# Altium footprint library 我的PCB.PcbLib: 347 footprints (part 2 of 22)
Each footprint in its own frame and in the unit in brackets; x right, y up, seen from the top. Pads: shape width x height; smd on the part's side, far side on the other; paste and mask are expansions set on the pad; w line width, h text height; cw(c..) or ccw(c..) is an arc to the next point about the centre after c.
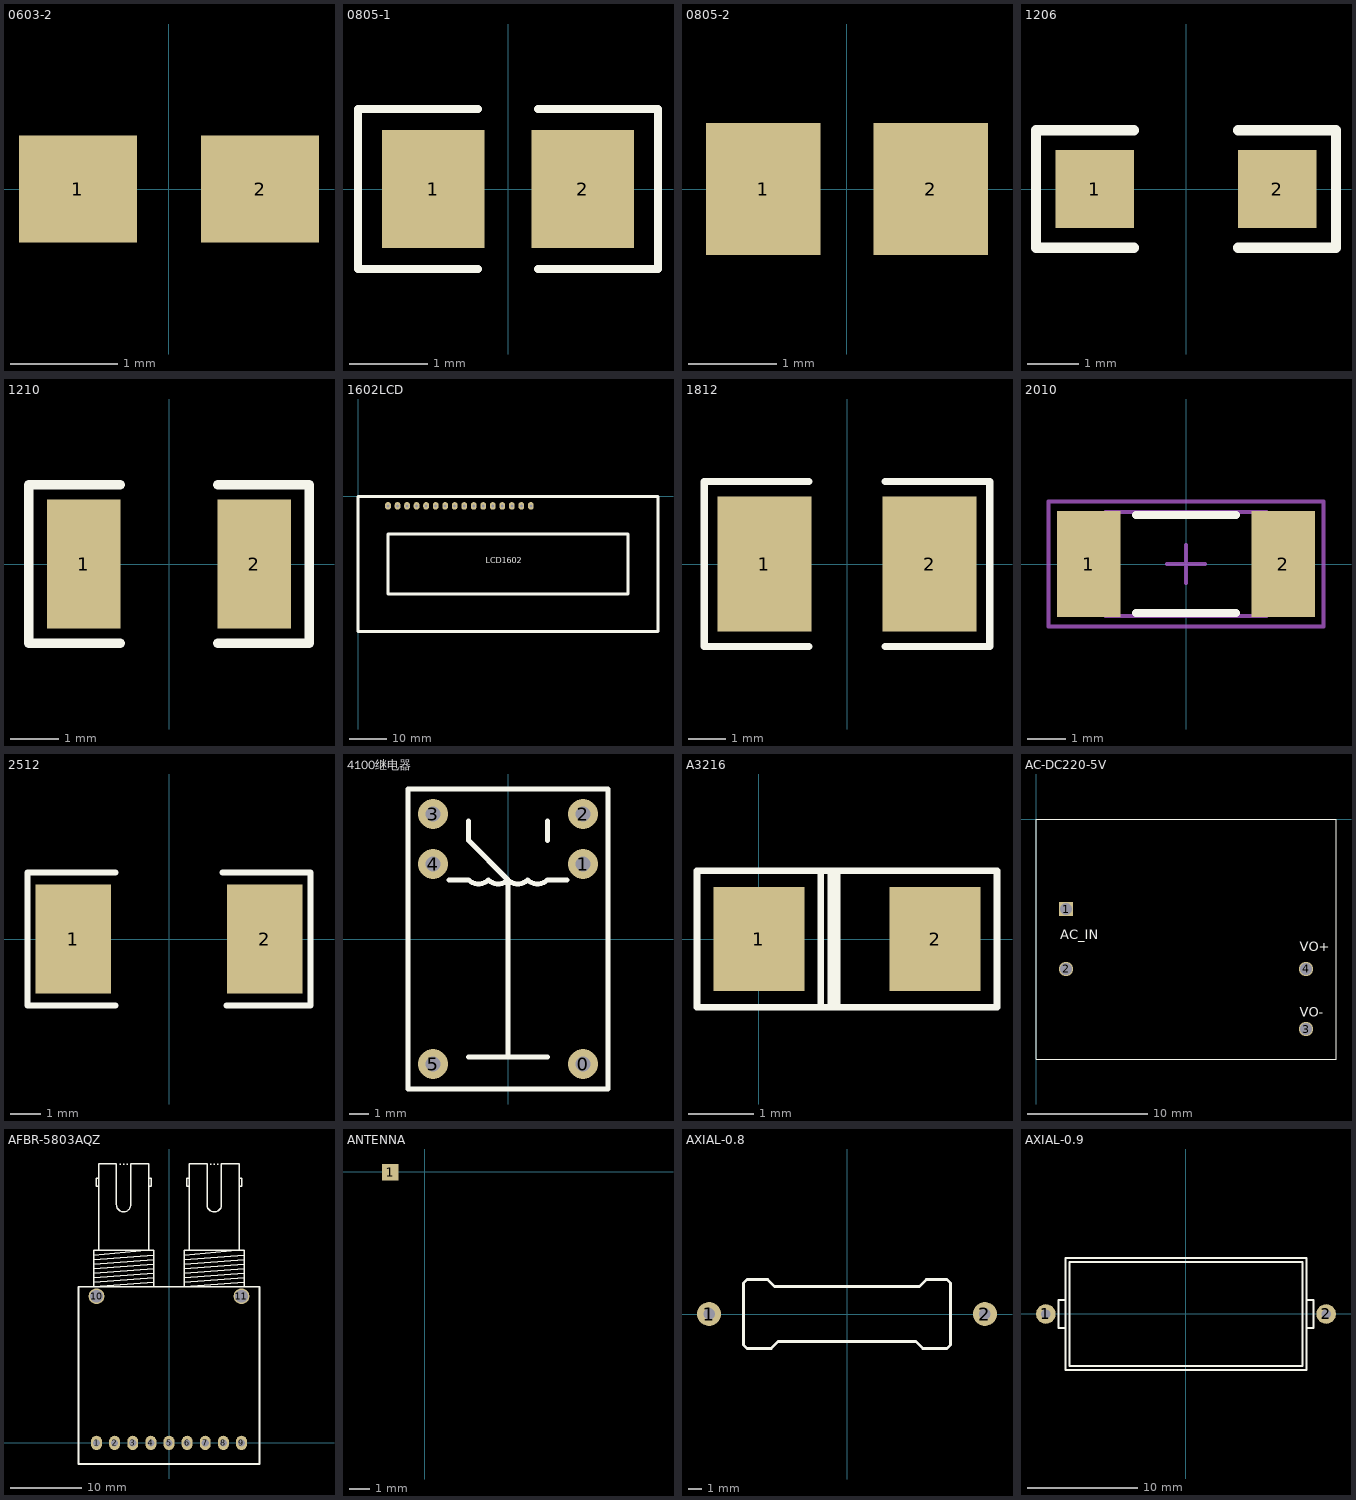
[diagram p1: the footprints below, top view; thin cyan lines are the x and y axes]

## 0603-2 [mm] "贴片无丝印"
height 0.6
pads (2):
  rect 1.1x1 smd: 1(-0.85,0) 2(0.85,0)

## 0805-1 [mm] "贴片带丝印"
height 1.1
pads (2):
  rect 1.3x1.5 smd: 1(-0.95,0) 2(0.95,0)
Top Overlay:
  lines w0.1: -0.381,-1.016 -1.905,-1.016 -1.905,1.016 -0.381,1.016 ; 0.381,-1.016 1.905,-1.016 1.905,1.016 0.381,1.016
3D body: height 1, standoff 0, extent -1.143,-0.508 -1.016,0.508
3D body: height 1, standoff 0, extent 1.016,-0.508 1.143,0.508
3D body: height 1, standoff 0, extent -1.016,-0.508 1.016,0.508

## 0805-2 [mm] "贴片无丝印"
height 1
pads (2):
  rect 1.3x1.5 smd: 1(-0.95,0) 2(0.95,0)

## 1206 [mil] "贴片元件"
height 59.06
pads (2):
  rect 60x60 smd: 1(-70,0) 2(70,0)
Top Overlay:
  lines w7.87: -40,-45 -115,-45 -115,45 -40,45 ; 40,-45 115,-45 115,45 40,45
3D body: height 39.37, standoff 0, extent -55,-35 55,35
3D body: height 39.37, standoff 0, extent 55,-35 75,35
3D body: height 39.37, standoff 0, extent -75,-35 -55,35

## 1210 [mil] "贴片元件"
height 59.06
pads (2):
  rect 60x106.3 smd: 1(-70,0) 2(70,0)
Top Overlay:
  lines w7.87: -40,-65 -115,-65 -115,65 -40,65 ; 40,-65 115,-65 115,65 40,65
3D body: height 39.37, standoff 0, extent -65,-50 65,50

## 1602LCD [mil] "LCD module 16*2 char"
pads (16):
  oval 60x80 hole 30: 1(314.96,-98.43) 2(414.96,-98.43) 3(514.96,-98.43) 4(614.96,-98.43) 5(714.96,-98.43) 6(814.96,-98.43) 7(914.96,-98.43) 8(1014.96,-98.43) 9(1114.96,-98.43) 10(1214.96,-98.43) 11(1314.96,-98.43) 12(1414.96,-98.43) 13(1514.96,-98.43) 14(1614.96,-98.43) 15(1714.96,-98.43) 16(1814.96,-98.43)
Top Overlay:
  lines w30: 0,-1417.32 3149.61,-1417.32 3149.61,0 0,0 0,-1417.32 ; 314.96,-1023.62 2834.65,-1023.62 2834.65,-393.7 314.96,-393.7 314.96,-1023.62
  text "LCD1602" at 1340,-700 h60
3D body: height 414, standoff -106, extent -5,-1430 3164.29,7.01

## 1812 [mm] "保险丝"
height 1
pads (2):
  rect 2.5x3.6 smd: 1(-2.2,0) 2(2.2,0)
Top Overlay:
  lines w0.2: -1.016,-2.2 -3.81,-2.2 -3.81,2.2 -1.016,2.2 ; 1.016,-2.2 3.81,-2.2 3.81,2.2 1.016,2.2
3D body: height 0.9, standoff 0, extent -2.54,0.635 -2.032,1.524
3D body: height 0.9, standoff 0, extent -2.54,-1.524 -2.032,-0.635
3D body: height 0.9, standoff 0, extent 2.159,-1.524 2.667,-0.635
3D body: height 0.9, standoff 0, extent 2.159,0.635 2.667,1.524
3D body: height 1.2, standoff 0, extent -2.286,-1.651 2.286,1.651

## 2010 [mm] "贴片电阻"
height 0.6
pads (2):
  rect 1.65x2.75 smd: 1(-2.525,0) 2(2.525,0)
Top Overlay:
  lines w0.2: -1.3,-1.275 1.3,-1.275 ; -1.3,1.275 1.3,1.275
Mechanical 13:
  lines w0.1: -2.1,-1.35 2.1,-1.35 2.1,1.35 -2.1,1.35 -2.1,-1.35
Mechanical 15:
  lines w0.1: -0.5,0 0.5,0 ; 0,-0.5 0,0.5 ; -3.575,-1.625 3.575,-1.625 3.575,1.625 -3.575,1.625 -3.575,-1.625
3D body: height 0.6, standoff 0, extent -2.1,-1.35 2.1,1.35

## 2512 [mm] "保险丝"
height 1
pads (2):
  rect 2.5x3.6 smd: 1(-3.175,0) 2(3.175,0)
Top Overlay:
  lines w0.2: -1.778,-2.2 -4.699,-2.2 -4.699,2.2 -1.778,2.2 ; 1.778,2.2 4.699,2.2 4.699,-2.2 1.905,-2.2
3D body: height 1.2, standoff 0, extent -3.175,-1.651 3.175,1.651
3D body: height 0.9, standoff 0, extent -2.54,0.635 -2.032,1.524
3D body: height 0.9, standoff 0, extent -2.54,-1.524 -2.032,-0.635
3D body: height 0.9, standoff 0, extent 2.159,-1.524 2.667,-0.635
3D body: height 0.9, standoff 0, extent 2.159,0.635 2.667,1.524

## 4100继电器 [mil]
pads (6):
  round 60 hole 30: 0(150,-250) 1(150,150) 2(150,250) 3(-150,250) 4(-150,150) 5(-150,-250)
Top Overlay:
  lines w10: -118.11,118.11 -78.74,118.11 ccw(c-59.06,137.8) -39.37,118.11 ccw(c-19.68,137.8) 0,118.11 ; -78.74,-236.22 78.74,-236.22 ; -78.74,236.22 -78.74,196.85 0,118.11 ; 0,-236.22 0,118.11 ; 78.74,196.85 78.74,236.22 ; 118.11,118.11 78.74,118.11 cw(c59.06,137.8) 39.37,118.11 cw(c19.69,137.8) 0,118.11 ; -200,-300 -200,300 200,300 200,-300 -200,-300

## A3216 [mm]
pads (2):
  rect 1.4x1.6 smd: 1(0,0) 2(2.7,0)
Top Overlay:
  lines w0.1: 0.95,-1 0.95,1 ; -0.95,-1.05 3.65,-1.05 3.65,1.05 -0.95,1.05 -0.95,-1.05
  lines w0.2: 1.15,-1 1.15,1

## AC-DC220-5V [mm]
pads (4):
  rect 1.2x1.2 hole 1: 1(2.5,-7.5)
  round 1.2 hole 1: 2(2.5,-12.5) 3(22.5,-17.5) 4(22.5,-12.5)
Top Overlay:
  lines w0.1: 0,-20 0,0 25,0 25,-20 0,-20
  text "AC_IN" at 2,-10 h0.8
  text "VO+" at 22,-11 h0.8
  text "VO-" at 22,-16.5 h0.8

## AFBR-5803AQZ [mm] "光以太网"
height 14.8
pads (11):
  oval 1.524x2 hole 1: 1(-10.16,0) 2(-7.62,0) 3(-5.08,0) 4(-2.54,0) 5(0,0) 6(2.54,0) 7(5.08,0) 8(7.62,0) 9(10.16,0)
  round 2.2 hole 1.8: 10(-10.16,20.54) 11(10.16,20.54)
Top Overlay:
  lines w0.2: -10.559,23.15 -2.159,23.785 ; -10.559,23.785 -2.159,24.42 ; -10.559,24.42 -2.159,25.055 ; -10.559,25.055 -2.159,25.69 ; -10.559,25.69 -2.159,26.325 ; -10.559,26.325 -3.184,26.98 ; -10.55,22.515 -2.159,23.15 ; -9.859,35.985 -10.225,35.985 -10.225,37.085 -9.859,37.085 ; -7.359,33.378 ccw(c-6.359,33.378) -5.359,33.385 -5.359,39.08 -2.859,39.08 -2.859,26.98 -9.859,26.98 -9.859,39.08 -7.359,39.08 -7.359,33.378 ; -6.923,39.047 -6.796,39.047 ; -6.415,39.047 -6.288,39.047 ; -5.907,39.047 -5.78,39.047 ; -2.859,35.985 -2.478,35.985 -2.478,37.085 -2.859,37.085 ; -2.168,22.515 -10.559,21.88 ; 2.141,23.15 10.541,23.785 ; 2.141,23.785 10.541,24.42 ; 2.141,24.42 10.541,25.055 ; 2.141,25.055 10.541,25.69 ; 2.141,25.69 10.541,26.325 ; 2.141,26.325 9.516,26.98 ; 2.15,22.515 10.541,23.15 ; 2.841,35.985 2.475,35.985 2.475,37.085 2.841,37.085 ; 5.341,33.378 ccw(c6.341,33.378) 7.341,33.385 7.341,39.08 9.841,39.08 9.841,26.98 2.841,26.98 2.841,39.08 5.341,39.08 5.341,33.378 ; 5.777,39.047 5.904,39.047 ; 6.285,39.047 6.412,39.047 ; 6.793,39.047 6.92,39.047 ; 9.841,35.985 10.222,35.985 10.222,37.085 9.841,37.085 ; 10.532,22.515 2.141,21.88 ; -10.559,21.88 -10.559,26.98 -2.159,26.98 -2.159,21.88 -10.559,21.88 ; 2.141,21.88 2.141,26.98 10.541,26.98 10.541,21.88 2.141,21.88
  lines w0.254: -12.7,-2.965 12.7,-2.965 ; -12.7,-2.92 -12.7,21.88 12.7,21.88 12.7,-2.92

## ANTENNA [mm]
pads (1):
  rect 0.8x0.8 smd: 1(-1.66,-0.03)
Top Solder:
  lines w0.8: -1.66,-0.03 0,0 ; 3.5,-0.5 3.5,-9.5 ; 0,0 10,0 ; 0,0 10,0 ; 0,0 10,0 ; 3.5,-9.5 3.5,0 3.5,-9.5 ; 6,-9 6,-7.5 ; 6,-9 10,-9 ; 6,-9 6,-7.5 ; 6,-9 10,-9 ; 6,-9 10,-9 ; 6,-9 6,-7.5 ; 6,-7.5 10,-7.5 ; 6,-7.5 10,-7.5 ; 6,-7.5 10,-7.5 ; 6,-6 6,-4.5 ; 6,-6 10,-6 ; 6,-6 6,-4.5 ; 6,-6 10,-6 ; 6,-6 10,-6 ; 6,-6 6,-4.5 ; 6,-4.5 10,-4.5 ; 6,-4.5 10,-4.5 ; 6,-4.5 10,-4.5 ; 6,-3 6,-1.5 ; 6,-3 10,-3 ; 6,-3 6,-1.5 ; 6,-3 10,-3 ; 6,-3 10,-3 ; 6,-3 6,-1.5 ; 6,-1.5 10,-1.5 ; 6,-1.5 10,-1.5 ; 6,-1.5 10,-1.5 ; 10,-14 10,-9 ; 10,-14 10,-9 ; 10,-14 10,-9 ; 10,-7.5 10,-6 ; 10,-7.5 10,-6 ; 10,-7.5 10,-6 ; 10,-4.5 10,-3 ; 10,-4.5 10,-3 ; 10,-4.5 10,-3 ; 10,-1.5 10,0 ; 10,-1.5 10,0 ; 10,-1.5 10,0
  lines w0.82: -1.48,0 10.06,0 10.04,-0.02 10.04,-1.52 5.99,-1.52 6.02,-1.55 6.02,-3.03 9.96,-3.03 9.99,-3.06 9.99,-4.55 5.95,-4.55 6.02,-4.62 6.02,-6.06 6.09,-5.99 10.04,-5.99 10.04,-7.54 10.02,-7.56 6.01,-7.56 6.04,-7.59 6.04,-9.06 6.11,-8.99 10.04,-8.99 10.01,-9.02 10.01,-14.07 ; 3.5,-9.7 3.5,0

## AXIAL-0.8 [mil] "插件电阻"
height 100
pads (2):
  round 70 hole 33.46: 1(-400,0) 2(400,0)
Top Overlay:
  lines w7.87: -300,-90 -290,-100 -220,-100 -200,-80 200,-80 220,-100 290,-100 300,-90 300,90 290,100 230,100 210,80 -210,80 -230,100 -290,100 -300,90 -300,-90
3D body: height 98.43, standoff 0, extent -407.81,-7.85 -392.12,7.86
3D body: height 98.43, standoff 0, extent 392.2,-7.85 407.88,7.87
3D body: height 106.24, standoff 90.55, extent 295,-6.44 405.24,9.27
3D body: height 106.24, standoff 90.55, extent -405.24,-6.44 -295,9.27
3D body: height 176.54, standoff 19.68, extent -216.53,-77.17 216.54,80
3D body: height 196.07, standoff 0, extent 216.26,-96.82 295,99.64
3D body: height 196.07, standoff 0, extent -295,-96.82 -216.26,99.64

## AXIAL-0.9 [mil] "插件电阻"
height 100
pads (2):
  round 70 hole 33.46: 1(-500,0) 2(500,0)
Top Overlay:
  lines w7.87: -430,-50 -455,-50 -455,50 -430,50 ; 430,-50 455,-50 455,50 430,50 ; -430,-200 -430,200 430,200 430,-200 -430,-200 ; -415,-185 -415,185 415,185 415,-185 -415,-185